# EAGLE library part 6620XX21022_66201421022 (library WR-MPC3)
WR-MPC3 3.00 mm Male Dual Row Angled Header w. Plastic Pegs KIND PROPERTIES Pitch 3 mm Gender Male MATERIAL PROPERTIES Insulator Material LCP Insulator Flammability Rating UL94 V-0 Insulator Color Black Contact Material Copper Alloy Contact Plating： Tin Contact Type Stamped GENERAL INFORMATION Operating Temperature -40 up to +105 °C Working Voltage 250 V (AC) Withstanding Voltage 1500 V (AC) Contact Resistance 10 mΩ RISO 1000 MΩ CERTIFICATION UL Approval E323964 WIRE PROPERTIES Packaging ：Tube <https://katalog.we-online.com/media/images/v2/o33169v209%20Family_WR-MPC3_6620xx21022.jpg> Details see: https://katalog.we-online.com/en/em/MPC3_3_00_MALE_DUAL_ROW_ANGLED_HEADER_W_PLASTIC_PEGS_6620XX21022 Created by Yingchun,Shan 2019-11-13 2019 (C) Würth Elektronik
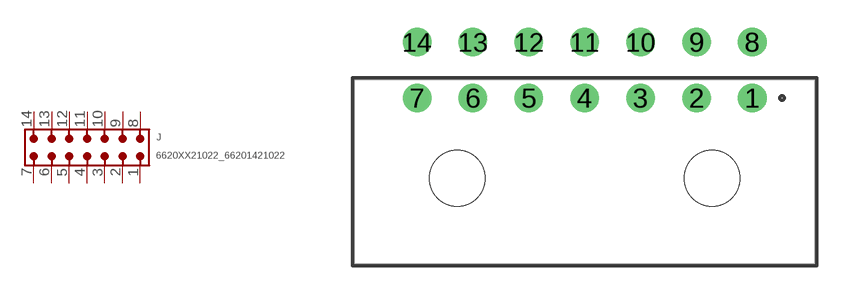
[diagram p61: symbol with the pads of 66201421022; footprint 66201421022]

Designator prefix J

## 6620XX21022_66201421022 (CONTACT-RESISTANCE: 10Ohm; DATASHEET-URL: https://www.we-online.com/redexpert/spec/66201421022?ae; GENDER: Male; IR: 5A; MOUNT: THT; PART-NUMBER: 66201421022; PINS: 14; PITCH: 3mm; ROWS: Dual; TOL-R: max.; TYPE: Right Angled; VALUE: 66201421022; WORKING-VOLTAGE: 250V(AC))  [66201421022]
1  1  pas
2  2  pas
3  3  pas
4  4  pas
5  5  pas
6  6  pas
7  7  pas
8  8  pas
9  9  pas
10  10  pas
11  11  pas
12  12  pas
13  13  pas
14  14  pas

## Footprint 66201421022 (pad centres in mm)
WR-MPC3 3.00 mm Male Dual Row Angled Header w. Plastic Pegs,14 Pins
drill 1.02: 1 9,3.95; 2 6,3.95; 3 3,3.95; 4 0,3.95; 5 -3,3.95; 6 -6,3.95; 7 -9,3.95; 8 9,6.95; 9 6,6.95; 10 3,6.95; 11 0,6.95; 12 -3,6.95; 13 -6,6.95; 14 -9,6.95
hole 3 at 6.84,-0.35
hole 3 at -6.84,-0.35